# EAGLE library part SSM2604 (library uPy_AudioCodec_00)
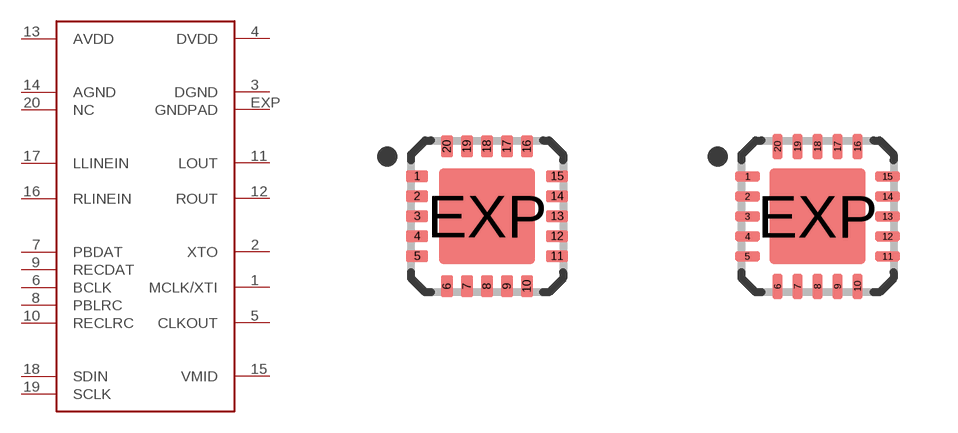
[diagram p1: symbol with the pads of LFCSP20; footprints LFCSP20, LFCSP20-1]

Designator prefix U

## SSM2604  [LFCSP20]
1  MCLK/XTI  in
2  XTO  out
3  DGND  pwr
4  DVDD  pwr
5  CLKOUT  out
6  BCLK  in
7  PBDAT  pwr
8  PBLRC  in
9  RECDAT  pwr
10  RECLRC  out
11  LOUT  out
12  ROUT  out
13  AVDD  pwr
14  AGND  pwr
15  VMID  pwr
16  RLINEIN  in
17  LLINEIN  in
18  SDIN  in
19  SCLK  out
20  NC  in
EXP  GNDPAD  pwr

## SSM2604-1  [LFCSP20-1]
Pads as for LFCSP20

## Footprint LFCSP20 (pad centres in mm)
smd 0.55 x 0.3: 1 -1.75,1; 2 -1.75,0.5; 3 -1.75,0; 4 -1.75,-0.5; 5 -1.75,-1; 11 1.75,-1; 12 1.75,-0.5; 13 1.75,0; 14 1.75,0.5; 15 1.75,1
smd 0.3 x 0.55: 6 -1,-1.75; 7 -0.5,-1.75; 8 0,-1.75; 9 0.5,-1.75; 10 1,-1.75; 16 1,1.75; 17 0.5,1.75; 18 0,1.75; 19 -0.5,1.75; 20 -1,1.75
smd 2.4 x 2.4: EXP 0,0

## Footprint LFCSP20-1 (pad centres in mm)
smd 0.635 x 0.254: 1 -1.75,1; 2 -1.75,0.5; 3 -1.75,0; 4 -1.75,-0.5; 5 -1.75,-1; 11 1.75,-1; 12 1.75,-0.5; 13 1.75,0; 14 1.75,0.5; 15 1.75,1
smd 0.254 x 0.635: 6 -1,-1.75; 7 -0.5,-1.75; 8 0,-1.75; 9 0.5,-1.75; 10 1,-1.75; 16 1,1.75; 17 0.5,1.75; 18 0,1.75; 19 -0.5,1.75; 20 -1,1.75
smd 2.4 x 2.4: EXP 0,0